# Altium footprint library TO-220-3.PcbLib: 1 footprints
Each footprint in its own frame and in the unit in brackets; x right, y up, seen from the top. Pads: shape width x height; smd on the part's side, far side on the other; paste and mask are expansions set on the pad; w line width, h text height; cw(c..) or ccw(c..) is an arc to the next point about the centre after c.
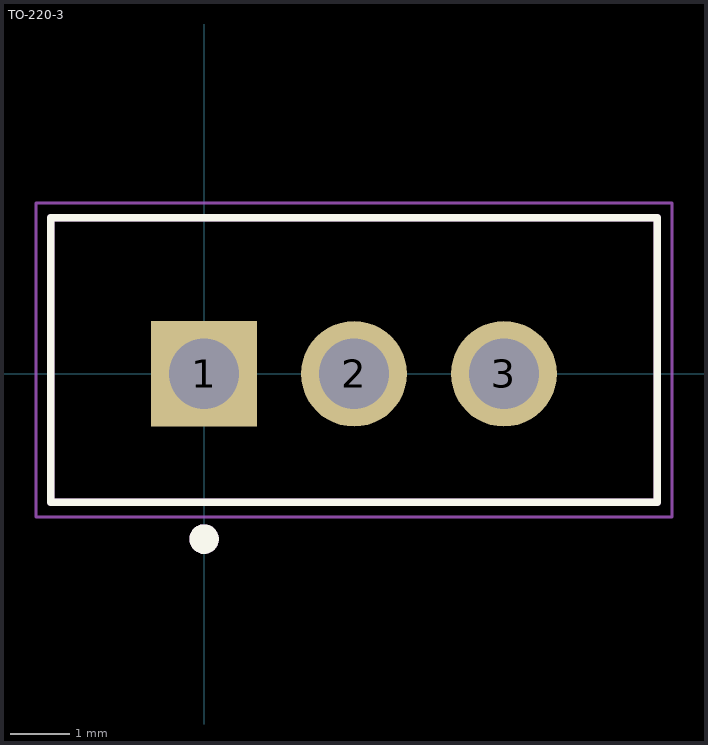
[diagram p0: the footprint, top view; thin cyan lines are the x and y axes]

## TO-220-3 [mm]
pads (3):
  rect 1.79x1.79 hole 1.19: 1(0,0)
  round 1.79 hole 1.19: 2(2.54,0) 3(5.08,0)
Top Overlay:
  circle w0.3: c0,-2.8 r0.1
  lines w0.127: -2.6,-2.18 7.68,-2.18 7.68,2.64 -2.6,2.64 -2.6,-2.18
Mechanical 4:
  circle w0.3: c0,-2.8 r0.1
  circle w0.3: c0,-2.8 r0.1
  lines w0.127: -2.6,-2.18 -2.6,2.64 ; -2.6,-2.18 7.68,-2.18 ; -2.6,-2.18 -2.6,2.64 ; -2.6,-2.18 7.68,-2.18 ; -2.6,2.64 7.68,2.64 ; -2.6,2.64 7.68,2.64 ; 7.68,-2.18 7.68,2.64 ; 7.68,-2.18 7.68,2.64
Mechanical 16:
  lines w0.05: -2.85,-2.427 -2.85,2.893 7.93,2.893 7.93,-2.427 -2.85,-2.427